# EAGLE library part THS7314 (library retro-gaming)
3-Channel SDTV Video Amplifier With 5 th-Order Filters and 6-dB Gain
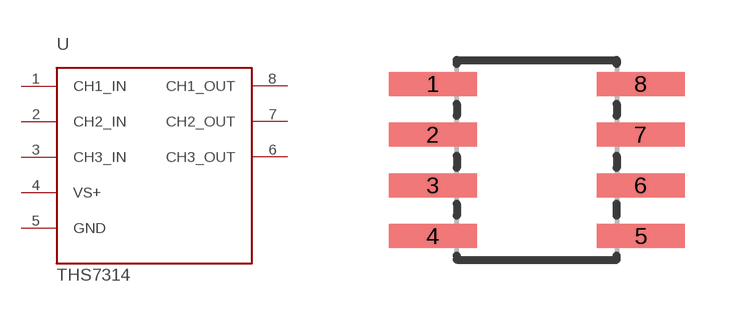
[diagram p0: symbol with the pads of SOIC-8; footprint SOIC-8]

Designator prefix -

## THS7314-SOIC8  [SOIC-8]
1  CH1_IN  in
2  CH2_IN  in
3  CH3_IN  in
4  VS+  pwr
5  GND  pwr
6  CH3_OUT  out
7  CH2_OUT  out
8  CH1_OUT  out

## Footprint SOIC-8 (pad centres in mm)
smd 2.2 x 0.6: 1 -3.8,2.6; 2 -3.8,1.33; 3 -3.8,0.06; 4 -3.8,-1.21; 5 1.41,-1.21; 6 1.4,0.06; 7 1.4,1.33; 8 1.4,2.6